# Altium schematic symbol library DiscreteSemiconductors.SchLib: 29 symbols
Pins are listed as number, name and electrical type; pins without a type are passive.

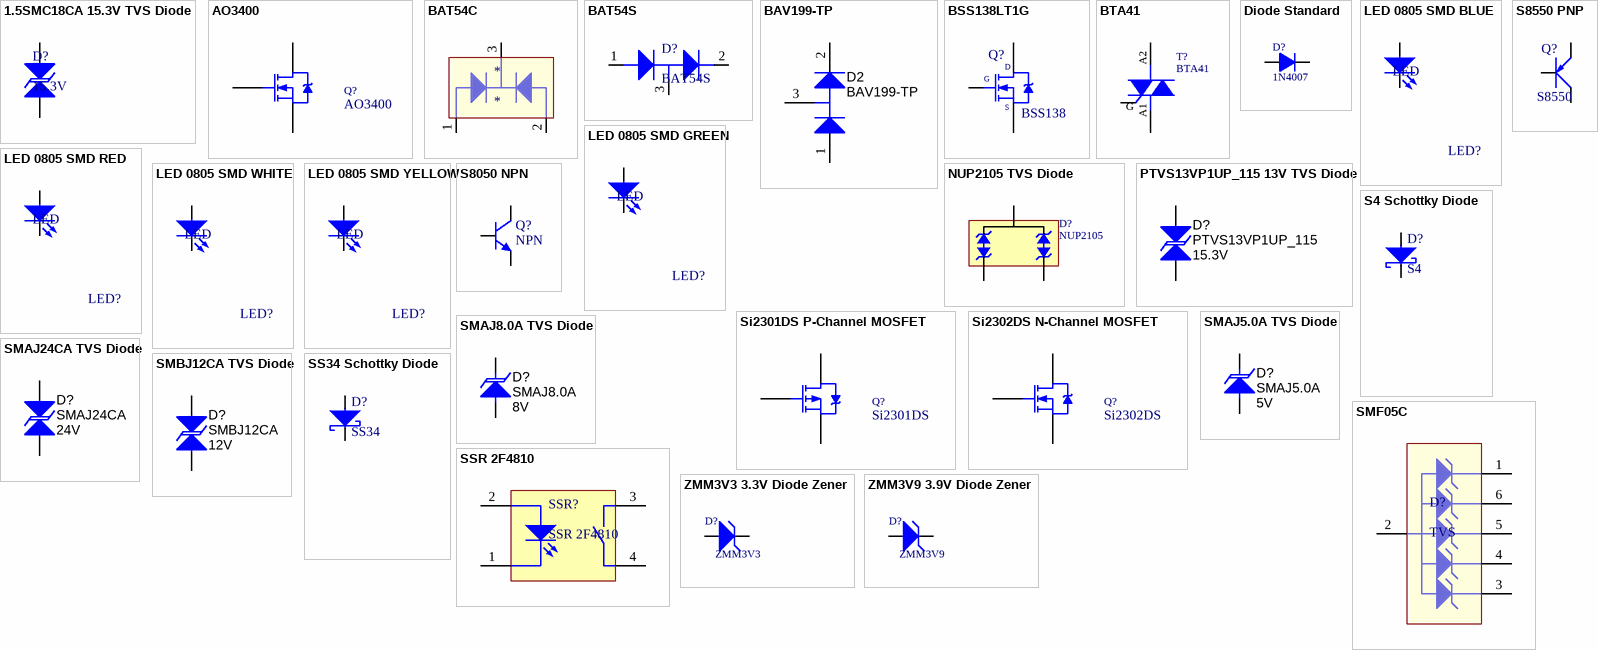
[diagram p0: symbols 1.5SMC18CA 15.3V TVS Diode to ZMM3V9 3.9V Diode Zener]

## 1.5SMC18CA 15.3V TVS Diode
designator D?, comment 15.3V
TVS Diode, Bidirectional, 15.3V
footprint DO-214AB
pins: 1 K, 2 A

## AO3400
designator Q?
30V 5.8A N-Channel MOSFET
footprint SOT23 (SOT 23 _ 1-3-2)
pins: 1 G, 2 S, 3 D

## BAT54C
designator *
footprint SOT23 (SOT 23 _ 1-3-2)
pins: 1 A, 2 A, 3 K

## BAT54S
designator D?
footprint SOT23 (SOT 23 _ 1-3-2)
pins: 1 A, 2 A, 3 K

## BAV199-TP
designator D2
Diode, Switching, 70V, 0.215A, SOT-23; Manufacturer: Micro Commercial Components; U/M: EA; Value2: V; Io_A: 0.215; Vr_V: 70; TJmax_C: 150; SymbolVersion: 2011-08-17; PartNumber: BAV199-TP; PackageReference: SOT-23; CompType: Diode; Value: 70V; Value1: 0.215A; MountType: SMT; Type: Switching; RoHS: Y; Published: 2008-06-26; Publisher: Texas Instruments; LatestRevisionDate: 2014-07-29; ComponentLink1Description: Datasheet link; ComponentLink1URL: http://www.mccsemi.com/up_pdf/BAV199(SOT-23).PDF; Supplier 1: Digi-Key; Supplier Part Number 1: BAV199-TPMSCT-ND; Supplier 2: Mouser; Supplier Part Number 2: 833-BAV199-TP
footprint SOT-23 (SOT23, 3-Leads, Body 2.9x1.3mm, Pitch 0.95mm, Lead Span 2.5mm, IPC Medium Density)
pins: 1 A, 2 K, 3 C
1 alternate drawing of the same symbol

## BSS138LT1G
designator Q?, comment BSS138
Power MOSFET 200mA, 50V, N-Channel SOT23; Value: IRF840
footprint SOT23 (SOT 23 _ 1-3-2)
pins: 1 G, 2 S, 3 D

## BTA41
designator T?
Triac; ComponentLink2Description: Open Datasheet; ComponentLink2URL: H:\LIBRARY\LIBRARY.Datasheet\
footprint SOT186A
footprint TO-220-3-Heatsink (TO-220; Heatsink; 3 Leads; Solder Pad 35mil)
pins: 1 A2, 2 A1, 3 G

## Diode Standard
designator D?, comment 1N4007
Rectifiers,Power Diode; Vendor: Digikey; Value: FRxxx; Published: 8-Jun-2000; LatestRevisionDate: 17-Jul-2002; LatestRevisionNote: Re-released for DXP Platform.; DatasheetDocument: 1997; PackageReference: DO-35; Publisher: Altium Limited; Code_JEDEC: DO-204-AH; ComponentLink1Description: Digikey Part Link; ComponentLink1URL: http://www.fairchildsemi.com/; ComponentLink2Description: Open Datasheet; ComponentLink2URL: H:\LIBRARY\LIBRARY.Datasheet\ds26003.pdf
footprint DO15-204AC (Diode 2A, W 150mil, L 450mil)
footprint DO-41 (Diode, Axial; Body 5.2 x 2.7 mm (LxDia. max), Lead Dia. 0.86 mm (max); Solder Pad 35mil)
footprint DO-41V
footprint SMA (DO-214AC)
footprint SMB (DO-214AA)
footprint SMC (DO-214AB)
pins: 1 A, 2 K

## LED 0805 SMD BLUE
designator LED?, comment LED
LED Single; Value: LED 3 ly Single Colour
footprint LED SMD 0805 BLUE (Chip LED; BLUE; Body 2.0 x 1.3 mm (LxW typ) [2012])
pins: 1, 2

## LED 0805 SMD GREEN
designator LED?, comment LED
LED Single; Value: LED 3 ly Single Colour
footprint LED SMD 0805 GRE
pins: 1, 2

## LED 0805 SMD RED
designator LED?, comment LED
LED Single; Value: LED 3 ly Single Colour
footprint LED SMD 0805 RED
pins: 1, 2

## LED 0805 SMD WHITE
designator LED?, comment LED
LED Single; Value: LED 3 ly Single Colour
footprint LED SMD 0805 WHITE
pins: 1, 2

## LED 0805 SMD YELLOW
designator LED?, comment LED
LED Single; Value: LED 3 ly Single Colour
footprint LED SMD 0805 YEL
pins: 1, 2

## NUP2105 TVS Diode
designator D?, comment NUP2105
Part Number: BZV55-C5V1; Pricing: *; ComponentLink1Description: Datasheet; ComponentLink1URL: http://www.vishay.com/docs/88392/smbj.pdf
footprint SOT23 (SOT 23 _ 1-3-2)
pins: 1, 2, 3

## PTVS13VP1UP_115 13V TVS Diode
designator D?, comment PTVS13VP1UP_115  value 15.3V
Diode, TVS, Uni, 13V, 600W, SMD, 2-Leads, Body 4x2.7mm, Height 1.1mm; Manufacturer: NXP Semiconductor; U/M: EA; Power_W: 600; Vr_V: 13; CompType: TVS; SymbolVersion: 2012-01-13; PartNumber: PTVS13VP1UP_115; PackageReference: SMD, 2-Leads, Body 4x2.7mm, Height 1.1mm; Vz_V: N/A; Value1: 600W; MountType: SMT; RoHS: Y; ComponentLink1Description: Datasheet link; ComponentLink1URL: http://www.nxp.com/documents/data_sheet/PTVSXP1UP_SER.pdf; Published: 2008-10-08; Publisher: Texas Instruments; LatestRevisionDate: 2014-07-29; LatestRevisionNote: Updated Supplier Data; Supplier 1: Digi-Key; Supplier Part Number 1: 568-5313-1-ND; Supplier 2: Mouser; Supplier Part Number 2: 771-PTVS13VP1UP115
footprint SOD-128 (SMD, 2-Leads, Body 4x2.7mm, Height 1.1mm)
pins: 1 K, 2 A

## S4 Schottky Diode
designator D?, comment S4
Diode Schottky 625mA
footprint SOD123
pins: 1, 2

## S8050 NPN
designator Q?, comment NPN
NPN General; Published: 8-Jun-2000; LatestRevisionDate: 15-Jan-2003; LatestRevisionNote: PCB Footprint 'BCY-W3/D4.7' replaced; DatasheetDocument: 1997; PackageDocument: Sep-1998; PackageReference: TO-92A; Publisher: Altium Limited; Code_JEDEC: TO-92A; ComponentLink1Description: Manufacturer Link; ComponentLink1URL: http://www.fairchildsemi.com/; ComponentLink2Description: Datasheet; ComponentLink2URL: http://www.fairchildsemi.com/ds/2N%2F2N3904.pdf
footprint SOT23 (SOT 23 _ 1-3-2)
pins: 1 B, 2 E, 3 C

## S8550 PNP
designator Q?, comment S8550
PNP 0.5A 40V, BEC SOT23; Value: A1015; ComponentLink1Description: Supplier; ComponentLink1URL: https://icdayroi.com/s8550
footprint SOT23 (SOT 23 _ 1-3-2)
pins: 1 B, 2 E, 3 C

## Si2301DS P-Channel MOSFET
designator Q?, comment Si2301DS
20V 2.3A P-Channel MOSFET
footprint SOT23 (SOT 23 _ 1-3-2)
pins: 1 G, 2 S, 3 D

## Si2302DS N-Channel MOSFET
designator Q?, comment Si2302DS
20V 2.5A N-Channel MOSFET
footprint SOT23 (SOT 23 _ 1-3-2)
pins: 1 G, 2 S, 3 D

## SMAJ5.0A TVS Diode
designator D?, comment SMAJ5.0A  value 5V
Manufacturer: NXP Semiconductor; CompType: TVS; U/M: EA; Power_W: 600; Vr_V: 13; Value1: 600W; SymbolVersion: 2012-01-13; PartNumber: SMAJ5.0A; PackageReference: SMD, 2-Leads, Body 4x2.7mm, Height 1.1mm; Vz_V: N/A; MountType: SMT; RoHS: Y; ComponentLink1Description: Datasheet link; ComponentLink1URL: http://www.nxp.com/documents/data_sheet/PTVSXP1UP_SER.pdf; Published: 2008-10-08; Publisher: Texas Instruments; LatestRevisionDate: 2014-07-29; LatestRevisionNote: Updated Supplier Data; Supplier 1: Digi-Key; Supplier Part Number 1: 568-5313-1-ND; Supplier 2: Mouser; Supplier Part Number 2: 771-PTVS13VP1UP115
footprint DO-214AC
pins: 1 K, 2 A

## SMAJ8.0A TVS Diode
designator D?, comment SMAJ8.0A  value 8V
Manufacturer: NXP Semiconductor; CompType: TVS; U/M: EA; Power_W: 600; Vr_V: 13; Value1: 600W; SymbolVersion: 2012-01-13; PartNumber: SMAJ8.0A; PackageReference: SMD, 2-Leads, Body 4x2.7mm, Height 1.1mm; Vz_V: N/A; MountType: SMT; RoHS: Y; ComponentLink1Description: Datasheet link; ComponentLink1URL: http://www.nxp.com/documents/data_sheet/PTVSXP1UP_SER.pdf; Published: 2008-10-08; Publisher: Texas Instruments; LatestRevisionDate: 2014-07-29; LatestRevisionNote: Updated Supplier Data; Supplier 1: Digi-Key; Supplier Part Number 1: 568-5313-1-ND; Supplier 2: Mouser; Supplier Part Number 2: 771-PTVS13VP1UP115
footprint DO-214AC
pins: 1 K, 2 A

## SMAJ24CA TVS Diode
designator D?, comment SMAJ24CA  value 24V
PartNumber: PTVS13VP1UP_115; Manufacturer: NXP Semiconductor; CompType: TVS; U/M: EA; Power_W: 600; Vr_V: 13; Value1: 600W; SymbolVersion: 2012-01-13; PackageReference: SMD, 2-Leads, Body 4x2.7mm, Height 1.1mm; Vz_V: N/A; MountType: SMT; RoHS: Y; ComponentLink1Description: Datasheet link; ComponentLink1URL: http://www.nxp.com/documents/data_sheet/PTVSXP1UP_SER.pdf; Published: 2008-10-08; Publisher: Texas Instruments; LatestRevisionDate: 2014-07-29; LatestRevisionNote: Updated Supplier Data; Supplier 1: Digi-Key; Supplier Part Number 1: 568-5313-1-ND; Supplier 2: Mouser; Supplier Part Number 2: 771-PTVS13VP1UP115
footprint DO-214AA
pins: 1 K, 2 A

## SMBJ12CA TVS Diode
designator D?, comment SMBJ12CA  value 12V
PartNumber: PTVS13VP1UP_115; Manufacturer: NXP Semiconductor; CompType: TVS; U/M: EA; Power_W: 600; Vr_V: 13; Value1: 600W; SymbolVersion: 2012-01-13; PackageReference: SMD, 2-Leads, Body 4x2.7mm, Height 1.1mm; Vz_V: N/A; MountType: SMT; RoHS: Y; ComponentLink1Description: Datasheet link; ComponentLink1URL: http://www.nxp.com/documents/data_sheet/PTVSXP1UP_SER.pdf; Published: 2008-10-08; Publisher: Texas Instruments; LatestRevisionDate: 2014-07-29; LatestRevisionNote: Updated Supplier Data; Supplier 1: Digi-Key; Supplier Part Number 1: 568-5313-1-ND; Supplier 2: Mouser; Supplier Part Number 2: 771-PTVS13VP1UP115
footprint DO-214AA
pins: 1 K, 2 A

## SMF05C
designator D?, comment TVS
footprint SOT363 (SOT363, 6-Leads, Body 2x1.3mm, Pitch 0.65mm, Lead Span 2.1mm, IPC High Density)
pins: 1 K1, 2 A, 3 K3, 4 K4, 5 K5, 6 K6

## SS34 Schottky Diode
designator D?, comment SS34
Diode Schottky
footprint DO-214AC
pins: 1, 2

## SSR 2F4810
designator SSR?
footprint SSR 2F4810
pins: 1, 2, 3, 4

## ZMM3V3 3.3V Diode Zener
designator D?, comment ZMM3V3
Diode Zener
footprint SOD80
pins: 1, 2

## ZMM3V9 3.9V Diode Zener
designator D?, comment ZMM3V9
Diode Zener
footprint SOD80
pins: 1, 2